# Altium schematic symbol library SamacSys.SchLib: 47 symbols
Pins are listed as number, name and electrical type; pins without a type are passive.

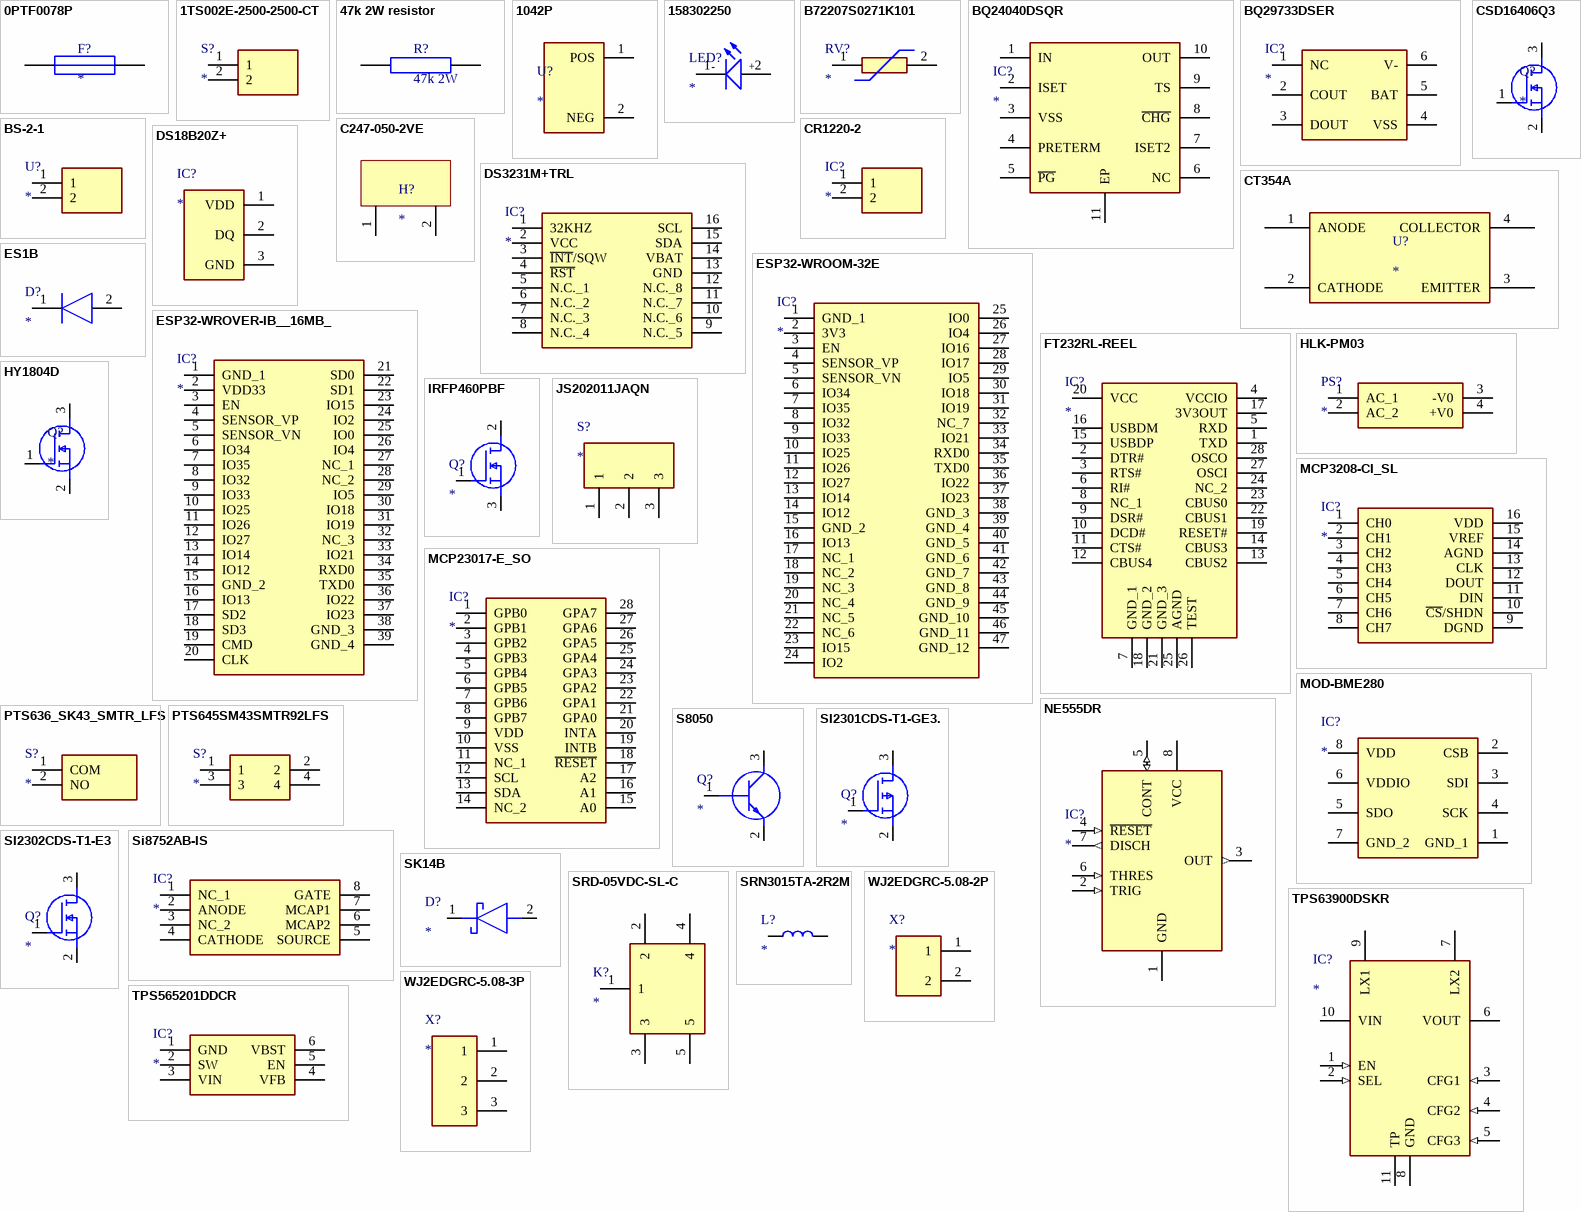
[diagram p0: symbols 0PTF0078P to WJ2EDGRC-5.08-3P]

## 0PTF0078P
designator F?
Fuse holder; Manufacturer_Name: LITTELFUSE; Manufacturer_Part_Number: 0PTF0078P; Datasheet Link: https://media.digikey.com/pdf/Data%20Sheets/Littelfuse%20PDFs/PTF075_77_78.pdf; Height: 11.5mm; Mouser Part Number: 576-0PTF0078P; Mouser Price/Stock: https://www.mouser.co.uk/ProductDetail/Littelfuse/0PTF0078P?qs=Co4VkB5J4%2Fsczy6gG8s%2FsA%3D%3D; Arrow Part Number: 0PTF0078P; Arrow Price/Stock: https://www.arrow.com/en/products/0ptf0078p/littelfuse?region=nac
footprint 0PTF0078P
footprint FH1-200CK-B
pins: 1, 2

## 1TS002E-2500-2500-CT
designator S?
Switch; Manufacturer_Name: HON YUAN; Manufacturer_Part_Number: 1TS002E-2500-2500-CT; Datasheet Link: https://datasheet.lcsc.com/szlcsc/HYP-1TS002E-2500-2500_C329185.pdf; Height: 2.7mm
footprint 1TS002E25002500CT
pins: 1, 2

## 47k 2W resistor
designator R?, comment 47k 2W
MFR02SF4702A10
footprint MFR02SF4702A10
pins: 1, 2

## 1042P
designator U?
Undefined or Miscellaneous; Manufacturer_Name: Keystone Electronics; Manufacturer_Part_Number: 1042P; Datasheet Link: http://www.keyelco.com/product-pdf.cfm?p=13957; Height: 14mm; Arrow Part Number: 1042P; Arrow Price/Stock: https://www.arrow.com/en/products/1042p/keystone-electronics; Mouser Part Number: 534-1042P; Mouser Price/Stock: https://www.mouser.co.uk/ProductDetail/Keystone-Electronics/1042P?qs=g2rIOKKlpoboHyq0g1zn1A%3D%3D
footprint 1042P
pins: 1 POS, 2 NEG

## 158302250
designator LED?
LED; Manufacturer_Name: Wurth Elektronik; Manufacturer_Part_Number: 158302250; Datasheet Link: https://componentsearchengine.com/Datasheets/2/158302250.pdf; Height: 0.8mm
footprint 158302250
pins: 1 -, 2 +

## B72207S0271K101
designator RV?
Varistor; Manufacturer_Name: TDK; Manufacturer_Part_Number: B72207S0271K101; Datasheet Link: https://product.tdk.com/system/files/dam/doc/product/protection/voltage/lead-disk-varistor/data_sheet/70/db/var/siov_leaded_standard.pdf; Height: 11mm; Mouser Part Number: 871-B72207S271K101; Mouser Price/Stock: https://www.mouser.co.uk/ProductDetail/EPCOS-TDK/B72207S0271K101?qs=dEfas%2FXlABKLl07P%2FsKndA%3D%3D; Arrow Part Number: B72207S0271K101; Arrow Price/Stock: https://www.arrow.com/en/products/b72207s0271k101/epcos-tdk
footprint B72207S0271K101
pins: 1, 2

## BQ24040DSQR
designator IC?
Integrated Circuit; Manufacturer_Name: Texas Instruments; Manufacturer_Part_Number: BQ24040DSQR; Datasheet Link: http://www.ti.com/lit/gpn/bq24040; Height: 0.8mm; Arrow Part Number: BQ24040DSQR; Arrow Price/Stock: https://www.arrow.com/en/products/bq24040dsqr/texas-instruments; Mouser Part Number: 595-BQ24040DSQR; Mouser Price/Stock: https://www.mouser.co.uk/ProductDetail/Texas-Instruments/BQ24040DSQR?qs=c7TMWs5treTJYvOlVMq%252B%2Fw%3D%3D
footprint SON40P200X200X80-11N
pins: 1 IN, 2 ISET, 3 VSS, 4 PRETERM, 5 ~{PG}, 6 NC, 7 ISET2, 8 ~{CHG}, 9 TS, 10 OUT, 11 EP

## BQ29733DSER
designator IC?
Integrated Circuit; Manufacturer_Name: Texas Instruments; Manufacturer_Part_Number: BQ29733DSER; Datasheet Link: http://www.ti.com/lit/gpn/bq2973; Height: 0.8mm; Arrow Part Number: BQ29733DSER; Arrow Price/Stock: https://www.arrow.com/en/products/bq29733dser/texas-instruments; Mouser Part Number: 595-BQ29733DSER; Mouser Price/Stock: https://www.mouser.co.uk/ProductDetail/Texas-Instruments/BQ29733DSER?qs=zEmsApcVOkXE%2FeW5P0rGzw%3D%3D
footprint SON50P150X150X80-6N
pins: 1 NC, 2 COUT, 3 DOUT, 4 VSS, 5 BAT, 6 V-

## BS-2-1
designator U?
Undefined or Miscellaneous; Manufacturer_Name: Q&J; Manufacturer_Part_Number: BS-2-1; Datasheet Link: https://datasheet.lcsc.com/szlcsc/Q-J-BS-2-1_C70376.pdf; Height: 8.95mm
footprint BS21
pins: 1, 2

## C247-050-2VE
designator H?
Heatsink
footprint C247-050-2VE (Heatsink)
pins: 1, 2

## CR1220-2
designator IC?
Integrated Circuit; Manufacturer_Name: Q&J; Manufacturer_Part_Number: CR1220-2; Datasheet Link: https://datasheet.lcsc.com/szlcsc/Q-J-CR1220-2_C70381.pdf; Height: 4.1mm
footprint CR12202
pins: 1, 2

## CSD16406Q3
designator Q?
MOSFET (N-Channel); Manufacturer_Name: Texas Instruments; Manufacturer_Part_Number: CSD16406Q3; Datasheet Link: http://www.ti.com/lit/gpn/csd16406q3; Arrow Part Number: CSD16406Q3; Arrow Price/Stock: https://www.arrow.com/en/products/csd16406q3/texas-instruments; Mouser Part Number: 595-CSD16406Q3; Mouser Price/Stock: https://www.mouser.co.uk/ProductDetail/Texas-Instruments/CSD16406Q3?qs=SuDOdTVxq4Wogv4PDdDFZA%3D%3D
footprint DQG_VSON-CLIP
pins: 1 G, 2 S, 3 D

## CT354A
designator U?
Optocoupler
footprint CT354A
pins: 1 ANODE, 2 CATHODE, 3 EMITTER, 4 COLLECTOR

## DS18B20Z+
designator IC?
Integrated Circuit; Manufacturer_Name: Maxim Integrated; Manufacturer_Part_Number: DS18B20Z+; Datasheet Link: http://datasheets.maximintegrated.com/en/ds/DS18B20.pdf; Height: 1.75mm; Mouser Part Number: 700-DS18B20Z; Mouser Price/Stock: https://www.mouser.co.uk/ProductDetail/Maxim-Integrated/DS18B20Z%2b?qs=7H2Jq%252ByxpJL2uDe5ZHUfmA%3D%3D
footprint SOIC127P600X175-8N; pin to pad 1>3 2>4 3>5
pins: 1 VDD, 2 DQ, 3 GND

## DS3231M+TRL
designator IC?
Integrated Circuit; Manufacturer_Name: Maxim Integrated; Manufacturer_Part_Number: DS3231M+TRL; Datasheet Link: http://componentsearchengine.com/Datasheets/1/DS3231M+TRL.pdf; Height: 2.65mm; Mouser Part Number: 700-DS3231M+TRL; Mouser Price/Stock: https://www.mouser.co.uk/ProductDetail/Maxim-Integrated/DS3231M%2bTRL/?qs=Bakm8ERcljq5PBzSwLfmgg%3D%3D
footprint SOIC127P1032X265-16N
pins: 1 32KHZ, 2 VCC, 3 ~{INT}/SQW, 4 ~{RST}, 5 N.C._1, 6 N.C._2, 7 N.C._3, 8 N.C._4, 9 N.C._5, 10 N.C._6, 11 N.C._7, 12 N.C._8, 13 GND, 14 VBAT, 15 SDA, 16 SCL

## ES1B
designator D?
Diode; Manufacturer_Name: ON Semiconductor; Manufacturer_Part_Number: ES1B; Datasheet Link: https://eu.mouser.com/ProductDetail/ON-Semiconductor-Fairchild/ES1B?qs=sEr9WmQGXZajUPtZJTSdjg%3D%3D; Height: 2.5mm; Mouser Part Number: 512-ES1B; Mouser Price/Stock: https://www.mouser.co.uk/ProductDetail/ON-Semiconductor-Fairchild/ES1B?qs=sEr9WmQGXZajUPtZJTSdjg%3D%3D; Arrow Part Number: ES1B; Arrow Price/Stock: https://www.arrow.com/en/products/es1b/on-semiconductor
footprint DIOM5227X250N
pins: 1 K, 2 A

## ESP32-WROOM-32E
designator IC?
Integrated Circuit; Manufacturer_Name: Espressif Systems; Manufacturer_Part_Number: ESP32-WROOM-32E; Datasheet Link: https://www.espressif.com/sites/default/files/documentation/esp32-wroom-32e_esp32-wroom-32ue_datasheet_en.pdf; Height: 3.25mm
footprint ESP32WROOM32E
pins: 1 GND_1, 2 3V3, 3 EN, 4 SENSOR_VP, 5 SENSOR_VN, 6 IO34, 7 IO35, 8 IO32, 9 IO33, 10 IO25, 11 IO26, 12 IO27, 13 IO14, 14 IO12, 15 GND_2, 16 IO13, 17 NC_1, 18 NC_2, 19 NC_3, 20 NC_4, 21 NC_5, 22 NC_6, 23 IO15, 24 IO2, 25 IO0, 26 IO4, 27 IO16, 28 IO17, 29 IO5, 30 IO18, 31 IO19, 32 NC_7, 33 IO21, 34 RXD0, 35 TXD0, 36 IO22, 37 IO23, 38 GND_3, 39 GND_4, 40 GND_5, 41 GND_6, 42 GND_7, 43 GND_8, 44 GND_9, 45 GND_10, 46 GND_11, 47 GND_12

## ESP32-WROVER-IB__16MB_
designator IC?
Integrated Circuit; Manufacturer_Name: Espressif Systems; Manufacturer_Part_Number: ESP32-WROVER-IB (16MB); Datasheet Link: https://componentsearchengine.com/Datasheets/1/ESP32-WROVER-IB (16MB).pdf; Height: 3.4mm; Mouser Part Number: 356-ESP32WROIB(16MB); Mouser Price/Stock: https://www.mouser.co.uk/ProductDetail/Espressif-Systems/ESP32-WROVER-IB-16MB?qs=w%2Fv1CP2dgqoY4iJbr7cDFQ%3D%3D
footprint ESP32WROVERIB16MB
pins: 1 GND_1, 2 VDD33, 3 EN, 4 SENSOR_VP, 5 SENSOR_VN, 6 IO34, 7 IO35, 8 IO32, 9 IO33, 10 IO25, 11 IO26, 12 IO27, 13 IO14, 14 IO12, 15 GND_2, 16 IO13, 17 SD2, 18 SD3, 19 CMD, 20 CLK, 21 SD0, 22 SD1, 23 IO15, 24 IO2, 25 IO0, 26 IO4, 27 NC_1, 28 NC_2, 29 IO5, 30 IO18, 31 IO19, 32 NC_3, 33 IO21, 34 RXD0, 35 TXD0, 36 IO22, 37 IO23, 38 GND_3, 39 GND_4

## FT232RL-REEL
designator IC?
Integrated Circuit; Manufacturer_Name: FTDI Chip; Manufacturer_Part_Number: FT232RL-REEL; Datasheet Link: http://www.ftdichip.com/Support/Documents/DataSheets/ICs/DS_FT232R.pdf; Height: 2mm; Arrow Part Number: FT232RL-REEL; Arrow Price/Stock: https://www.arrow.com/en/products/ft232rl-reel/ftdi-chip; Mouser Part Number: 895-FT232RL; Mouser Price/Stock: https://www.mouser.co.uk/ProductDetail/FTDI/FT232RL-REEL?qs=D1%2FPMqvA103RC6OU6bKtoA%3D%3D
footprint SOP65P778X200-28N
pins: 1 TXD, 2 DTR#, 3 RTS#, 4 VCCIO, 5 RXD, 6 RI#, 7 GND_1, 8 NC_1, 9 DSR#, 10 DCD#, 11 CTS#, 12 CBUS4, 13 CBUS2, 14 CBUS3, 15 USBDP, 16 USBDM, 17 3V3OUT, 18 GND_2, 19 RESET#, 20 VCC, 21 GND_3, 22 CBUS1, 23 CBUS0, 24 NC_2, 25 AGND, 26 TEST, 27 OSCI, 28 OSCO

## HLK-PM03
designator PS?
Power Supply; Manufacturer_Name: Hi-Link; Manufacturer_Part_Number: HLK-PM03; Datasheet Link: https://datasheet.lcsc.com/szlcsc/1906201102_HI-LINK-HLK-PM03_C209904.pdf; Height: 15mm
footprint HLKPM03
pins: 1 AC_1, 2 AC_2, 3 -V0, 4 +V0

## HY1804D
designator Q?
footprint DPAK228P995X238-3N (D-PAK, 3-Pads, Body 6,20x6,76mm (max), IPC Medium Density)
pins: 1 G, 2 S, 3 D

## IRFP460PBF
designator Q?
MOSFET (N-Channel); Manufacturer_Name: Vishay; Manufacturer_Part_Number: IRFP460PBF; Datasheet Link: http://www.vishay.com/docs/91237/91237.pdf; Height: 5.31mm; Mouser Part Number: 844-IRFP460PBF; Mouser Price/Stock: https://www.mouser.co.uk/ProductDetail/Vishay-Semiconductors/IRFP460PBF?qs=%2FRKvNCQzLu1lHqVRTT%2Fu6Q%3D%3D; Arrow Part Number: IRFP460PBF; Arrow Price/Stock: https://www.arrow.com/en/products/irfp460pbf/vishay?region=nac
footprint TO546P531X1558X2511-3P
pins: 1 G, 2 D, 3 S

## JS202011JAQN
designator S?
Switch; Manufacturer_Name: C & K COMPONENTS; Manufacturer_Part_Number: JS202011JAQN; Datasheet Link: https://www.ckswitches.com/media/1422/js.pdf; Height: 3mm; Arrow Part Number: JS202011JAQN; Arrow Price/Stock: https://www.arrow.com/en/products/js202011jaqn/ck; Mouser Part Number: 611-JS202011JAQN; Mouser Price/Stock: https://www.mouser.co.uk/ProductDetail/CK/JS202011JAQN?qs=74EMXstkWMXDMLzbTlF50w%3D%3D
footprint JS202011JAQN
pins: 1, 2, 3

## MCP3208-CI_SL
designator IC?
Integrated Circuit; Manufacturer_Name: Microchip; Manufacturer_Part_Number: MCP3208-CI/SL; Datasheet Link: http://ww1.microchip.com/downloads/en/DeviceDoc/21298e.pdf; Height: 1.75mm; Mouser Part Number: 579-MCP3208CISL; Mouser Price/Stock: https://www.mouser.co.uk/ProductDetail/Microchip-Technology/MCP3208-CI-SL?qs=BYQkrObauitTKFi1HLZPqw%3D%3D; Arrow Part Number: MCP3208-CI/SL; Arrow Price/Stock: https://www.arrow.com/en/products/mcp3208-cisl/microchip-technology
footprint SOIC127P600X175-16N
pins: 1 CH0, 2 CH1, 3 CH2, 4 CH3, 5 CH4, 6 CH5, 7 CH6, 8 CH7, 9 DGND, 10 ~{CS}/SHDN, 11 DIN, 12 DOUT, 13 CLK, 14 AGND, 15 VREF, 16 VDD

## MCP23017-E_SO
designator IC?
Integrated Circuit; Manufacturer_Name: Microchip; Manufacturer_Part_Number: MCP23017-E/SO; Datasheet Link: http://docs-emea.rs-online.com/webdocs/0a78/0900766b80a784c3.pdf; Height: 2.65mm; Mouser Part Number: 579-MCP23017-E/SO; Mouser Price/Stock: https://www.mouser.co.uk/ProductDetail/Microchip-Technology/MCP23017-E-SO?qs=usxtMOJb1Rz8hft7vV7YMQ%3D%3D; Arrow Part Number: MCP23017-E/SO; Arrow Price/Stock: https://www.arrow.com/en/products/mcp23017-eso/microchip-technology
footprint SOIC127P1030X265-28N
pins: 1 GPB0, 2 GPB1, 3 GPB2, 4 GPB3, 5 GPB4, 6 GPB5, 7 GPB6, 8 GPB7, 9 VDD, 10 VSS, 11 NC_1, 12 SCL, 13 SDA, 14 NC_2, 15 A0, 16 A1, 17 A2, 18 ~{RESET}, 19 INTB, 20 INTA, 21 GPA0, 22 GPA1, 23 GPA2, 24 GPA3, 25 GPA4, 26 GPA5, 27 GPA6, 28 GPA7

## MOD-BME280
designator IC?
Integrated Circuit; Manufacturer_Name: Olimex Ltd.; Manufacturer_Part_Number: MOD-BME280; Datasheet Link: https://eu.mouser.com/datasheet/2/306/BME280-1620794.pdf; Height: 1mm; Mouser Part Number: 909-MOD-BME280; Mouser Price/Stock: https://www.mouser.co.uk/ProductDetail/Olimex-Ltd/MOD-BME280?qs=%252B6g0mu59x7K82sEO3yPPgg%3D%3D
footprint MODBME280
pins: 1 GND_1, 2 CSB, 3 SDI, 4 SCK, 5 SDO, 6 VDDIO, 7 GND_2, 8 VDD

## NE555DR
designator IC?
Integrated Circuit; Manufacturer_Name: Texas Instruments; Manufacturer_Part_Number: NE555DR; Datasheet Link: http://www.ti.com/lit/ds/symlink/ne555.pdf; Height: 1.75mm; Mouser Part Number: 595-NE555DR; Mouser Price/Stock: https://www.mouser.com/Search/Refine.aspx?Keyword=595-NE555DR; RS Part Number: 1218414; RS Price/Stock: http://uk.rs-online.com/web/p/products/1218414
footprint SOIC127P600X175-8N
pins: 1 GND (power), 2 TRIG (in), 3 OUT (out), 4 ~{RESET} (in), 5 CONT (io), 6 THRES (in), 7 DISCH (out), 8 VCC (power)

## PTS636_SK43_SMTR_LFS
designator S?
Switch; Manufacturer_Name: C & K COMPONENTS; Manufacturer_Part_Number: PTS636 SK43 SMTR LFS; Datasheet Link: https://componentsearchengine.com/Datasheets/1/PTS636 SK43 SMTR LFS.pdf; Height: 4.5mm; Arrow Part Number: PTS636 SK43 SMTR LFS; Arrow Price/Stock: https://www.arrow.com/en/products/pts636-sk43-smtr-lfs/ck; Mouser Part Number: 611-PTS636SK43SMTRLF; Mouser Price/Stock: https://www.mouser.co.uk/ProductDetail/CK/PTS636-SK43-SMTR-LFS?qs=vLWxofP3U2wsQpQ593zsYw%3D%3D
footprint PTS636SK43SMTRLFS
pins: 1 COM, 2 NO

## PTS645SM43SMTR92LFS
designator S?
Switch; Manufacturer_Name: C & K COMPONENTS; Manufacturer_Part_Number: PTS645SM43SMTR92LFS; Datasheet Link: http://www.farnell.com/datasheets/1914518.pdf; Mouser Part Number: 611-PTS645SM43SMTR92; Mouser Price/Stock: https://www.mouser.co.uk/ProductDetail/CK/PTS645SM43SMTR92LFS/?qs=FESYatJ8odKPktxv6ncfWg%3D%3D; Arrow Part Number: PTS645SM43SMTR92LFS; Arrow Price/Stock: https://www.arrow.com/en/products/pts645sm43smtr92lfs/ck
footprint PTS645(SMT)
pins: 1, 2, 3, 4

## S8050
designator Q?
Transistor BJT NPN; Manufacturer_Name: Galaxy; Manufacturer_Part_Number: S8050G; Height: 1.1mm
footprint SOT95P240X110-3N
pins: 1 B, 2 E, 3 C

## SI2301CDS-T1-GE3.
designator Q?
MOSFET (P-Channel); Manufacturer_Name: Vishay; Manufacturer_Part_Number: SI2301CDS-T1-GE3.; Datasheet Link: https://www.vishay.com/doc?68741; Height: 1.12mm
footprint SOT95P237X112-3N
pins: 1 G, 2 S, 3 D

## SI2302CDS-T1-E3
designator Q?
MOSFET (N-Channel); Manufacturer_Name: Vishay; Manufacturer_Part_Number: SI2302CDS-T1-E3; Datasheet Link: https://labcenter.componentsearchengine.com/Datasheets/2/SI2302CDS-T1-E3.pdf; Height: 1.12mm; Mouser Part Number: 781-SI2302CDS-E3; Mouser Price/Stock: https://www.mouser.co.uk/ProductDetail/Vishay-Semiconductors/SI2302CDS-T1-E3?qs=%252BPu8jn5UVnHNrjAmGCs%2Fuw%3D%3D; Arrow Part Number: SI2302CDS-T1-E3; Arrow Price/Stock: https://www.arrow.com/en/products/si2302cds-t1-e3/vishay
footprint SOT95P237X112-3N
pins: 1 G, 2 S, 3 D

## Si8752AB-IS
designator IC?
Integrated Circuit; Manufacturer_Name: Silicon Labs; Manufacturer_Part_Number: Si8752AB-IS; Datasheet Link: https://datasheet.datasheetarchive.com/originals/distributors/DKDS-19/378558.pdf; Height: 1.75mm; Mouser Part Number: 634-SI8752AB-IS; Mouser Price/Stock: https://www.mouser.co.uk/ProductDetail/Silicon-Labs/SI8752AB-IS?qs=j6MGy4L9yX1nnSxizYyoBA%3D%3D; Arrow Part Number: SI8752AB-IS; Arrow Price/Stock: https://www.arrow.com/en/products/si8752ab-is/silicon-labs
footprint SOIC127P600X175-8N
pins: 1 NC_1, 2 ANODE, 3 NC_2, 4 CATHODE, 5 SOURCE, 6 MCAP2, 7 MCAP1, 8 GATE

## SK14B
designator D?
Schottky Diode; Manufacturer_Name: Taiwan Semiconductor; Manufacturer_Part_Number: SK14B; Datasheet Link: http://docs-emea.rs-online.com/webdocs/0897/0900766b8089796b.pdf; Height: 2.61mm; Mouser Part Number: 821-SK14B; Mouser Price/Stock: https://www.mouser.com/Search/Refine.aspx?Keyword=821-SK14B
footprint DIOM5236X261N
pins: 1 K, 2 A

## SRD-05VDC-SL-C
designator K?
Relay or Contactor; Manufacturer_Name: Songle Relay; Manufacturer_Part_Number: SRD-05VDC-SL-C; Datasheet Link: http://files.microjpm.webnode.com/200001010-dda41de9e1/Songle%20Relay%20Datasheet.pdf
footprint SRD
pins: 1, 2, 3, 4, 5

## SRN3015TA-2R2M
designator L?
Inductor; Manufacturer_Name: Bourns; Manufacturer_Part_Number: SRN3015TA-2R2M; Datasheet Link: https://www.bourns.com/docs/Product-Datasheets/SRN3015TA.pdf; Height: 1.5mm; Arrow Part Number: SRN3015TA-2R2M; Arrow Price/Stock: https://www.arrow.com/en/products/srn3015ta-2r2m/bourns; Mouser Part Number: 652-SRN3015TA-2R2M; Mouser Price/Stock: https://www.mouser.co.uk/ProductDetail/Bourns/SRN3015TA-2R2M?qs=Vt59ZOdFuWbJCV1ksxH6dQ%3D%3D
footprint SRN3015TA2R2M
pins: 1, 2

## TPS63900DSKR
designator IC?
Integrated Circuit; Manufacturer_Name: Texas Instruments; Manufacturer_Part_Number: TPS63900DSKR; Datasheet Link: https://www.ti.com/lit/gpn/tps63900?HQS=ti-null-null-sf-df-pf-sep-wwe&DCM=yes; Height: 0.8mm
footprint SON50P250X250X80-11N-D
pins: 1 EN (in), 2 SEL (in), 3 CFG1 (in), 4 CFG2 (in), 5 CFG3 (in), 6 VOUT (power), 7 LX2 (power), 8 GND (power), 9 LX1 (power), 10 VIN (power), 11 TP (power)

## TPS565201DDCR
designator IC?
Integrated Circuit; Manufacturer_Name: Texas Instruments; Manufacturer_Part_Number: TPS565201DDCR; Datasheet Link: http://www.ti.com/lit/gpn/tps565201; Height: 1.1mm; Mouser Part Number: 595-TPS565201DDCR; Mouser Price/Stock: https://www.mouser.co.uk/ProductDetail/Texas-Instruments/TPS565201DDCR?qs=1mbolxNpo8cS5Y6DjJObRA%3D%3D; Arrow Part Number: TPS565201DDCR; Arrow Price/Stock: https://www.arrow.com/en/products/tps565201ddcr/texas-instruments
footprint SOT95P280X110-6N
pins: 1 GND, 2 SW, 3 VIN, 4 VFB, 5 EN, 6 VBST

## WJ2EDGRC-5.08-2P
designator X?
2P 5.08 mm female socket connector
footprint WJ2EDGRC-5.08-2P
pins: 1, 2

## WJ2EDGRC-5.08-3P
designator X?
3P 5.08 mm female socket connector
footprint WJ2EDGRC-5.08-3P
pins: 1, 2, 3

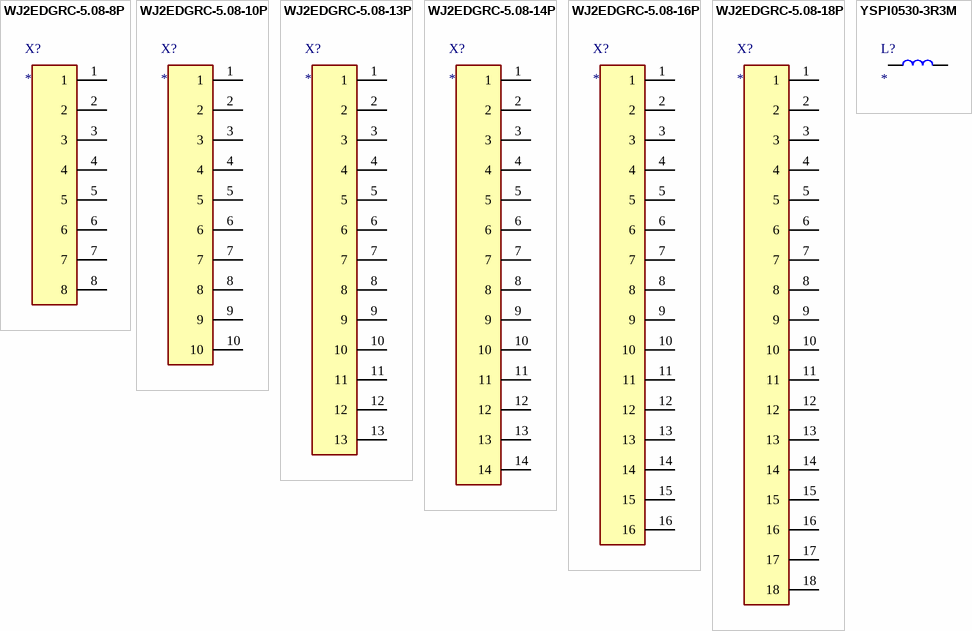
[diagram p1: symbols WJ2EDGRC-5.08-8P to YSPI0530-3R3M]

## WJ2EDGRC-5.08-8P
designator X?
8P 5.08 mm female socket connector
footprint WJ2EDGRC-5.08-8P
pins: 1, 2, 3, 4, 5, 6, 7, 8

## WJ2EDGRC-5.08-10P
designator X?
10P 5.08 mm female socket connector
footprint WJ2EDGRC-5.08-10P
pins: 1, 2, 3, 4, 5, 6, 7, 8, 9, 10

## WJ2EDGRC-5.08-13P
designator X?
13P 5.08 mm female socket connector
footprint WJ2EDGRC-5.08-13P_SLIM
pins: 1, 2, 3, 4, 5, 6, 7, 8, 9, 10, 11, 12, 13

## WJ2EDGRC-5.08-14P
designator X?
14P 5.08 mm female socket connector
footprint WJ2EDGRC-5.08-14P
pins: 1, 2, 3, 4, 5, 6, 7, 8, 9, 10, 11, 12, 13, 14

## WJ2EDGRC-5.08-16P
designator X?
16P 5.08 mm female socket connector
footprint WJ2EDGRC-5.08-16P
footprint WJ2EDGRC-5.08-16P_SLIM
pins: 1, 2, 3, 4, 5, 6, 7, 8, 9, 10, 11, 12, 13, 14, 15, 16

## WJ2EDGRC-5.08-18P
designator X?
18P 5.08 mm female socket connector
footprint WJ2EDGRC-5.08-18P
pins: 1, 2, 3, 4, 5, 6, 7, 8, 9, 10, 11, 12, 13, 14, 15, 16, 17, 18

## YSPI0530-3R3M
designator L?
Inductor
footprint YSPI0530-3R3M
pins: 1, 2